# Altium schematic symbol library EL.XXX.T01.SCHLIB: 178 symbols (part 2 of 3)
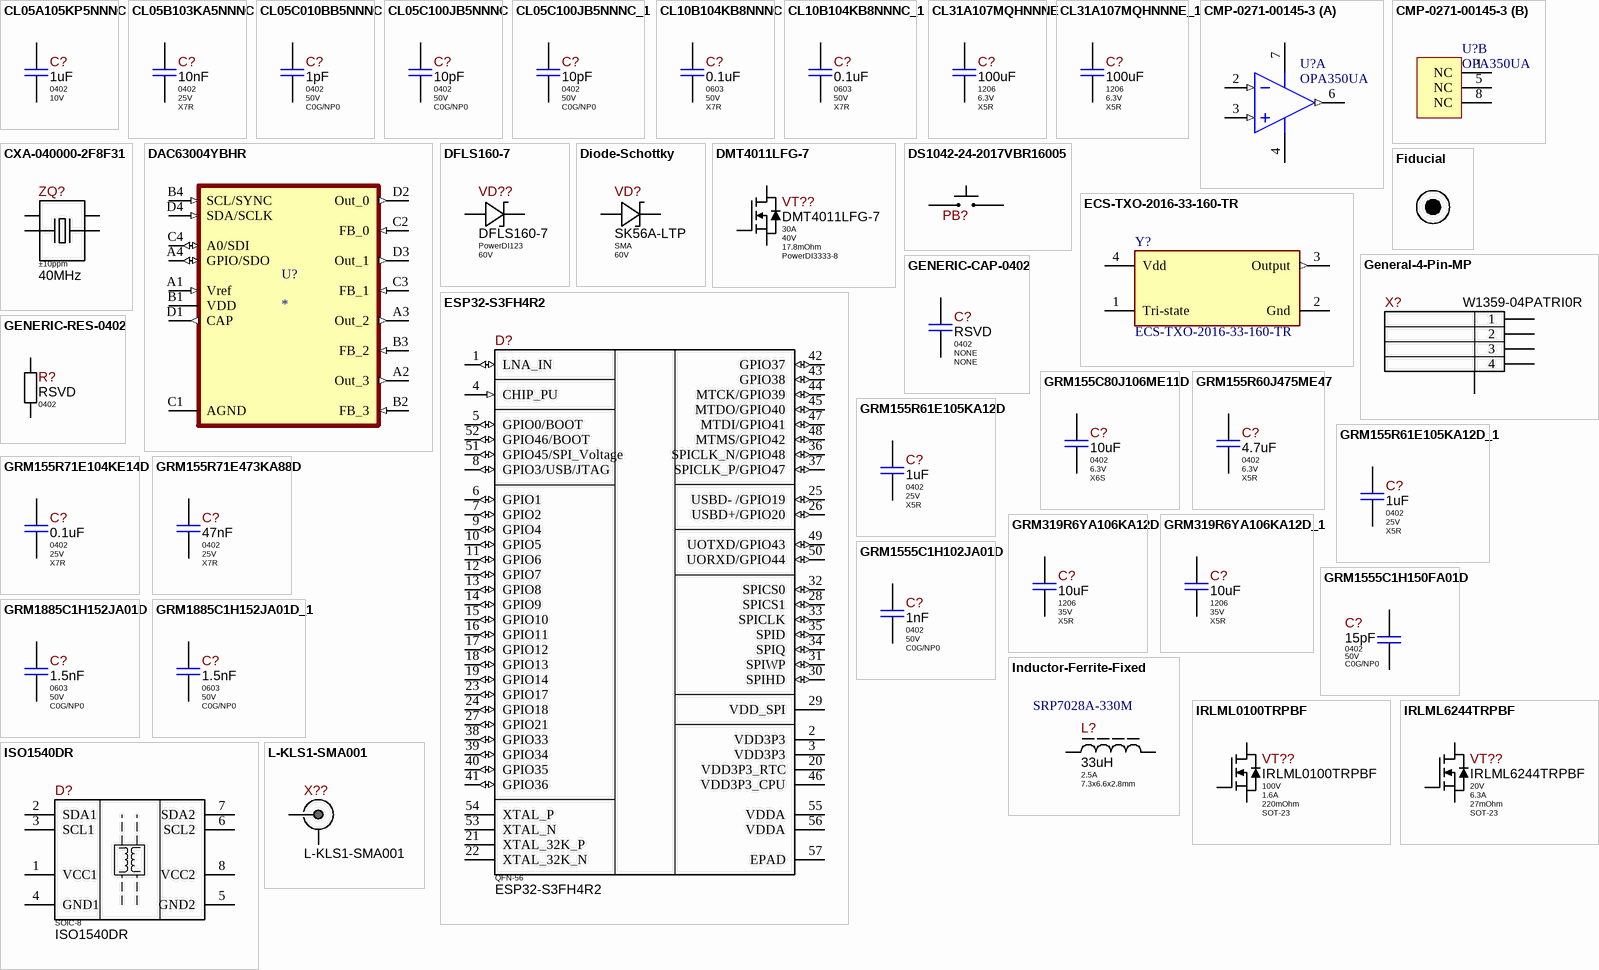
[diagram p5: symbols CL05A105KP5NNNC to L-KLS1-SMA001]

## GRM319R6YA106KA12D
designator C?, comment Package: 1206  Voltage: 35V  Dielectric Type: X5R  (hidden comment: 10uF)
10uF 35V X5R ±10% 1206 Ceramic Capacitor RoHS; Part Number: GRM319R6YA106KA12D; Manufacturer: Murata Electronics; Standard Lead Time: NONE; Component Status: Released; Part Type: Ceramic / X5R / 1206; Component Type: SMD; Temperature Range: -55°C ~ 85°C; Tolerance: ±10%; ComponentLink1URL: https://search.murata.co.jp/Ceramy/image/img/A01X/G101/ENG/GRM319R6YA106KA12-01.pdf; Supplier 1: Digi-Key; Supplier Part Number 1: 490-9964-1-ND; Replacement: NONE; ComponentLink1Description: Datasheet; Price: 0.03648; Value: 10uF
footprint CAP-1206(3216)X85T15
pins: 1, 2

## GRM319R6YA106KA12D_1
designator C?, comment Package: 1206  Voltage: 35V  Dielectric Type: X5R  (hidden comment: 10uF)
10uF 35V X5R ±10% 1206 Ceramic Capacitor RoHS; Part Number: GRM319R6YA106KA12D; Manufacturer: Murata Electronics; Standard Lead Time: NONE; Component Status: Released; Part Type: Ceramic / X5R / 1206; Component Type: SMD; Temperature Range: -55°C ~ 85°C; Tolerance: ±10%; ComponentLink1URL: https://search.murata.co.jp/Ceramy/image/img/A01X/G101/ENG/GRM319R6YA106KA12-01.pdf; Supplier 1: Digi-Key; Supplier Part Number 1: 490-9964-1-ND; Replacement: NONE; ComponentLink1Description: Datasheet; Price: 0.03648; Value: 10uF
footprint CAP-1206(3216)X85T15
pins: 1, 2

## GRM1555C1H102JA01D
designator C?, comment Package: 0402  Voltage: 50V  Dielectric Type: C0G/NP0  (hidden comment: 1nF)
1nF 50V C0G ±5% 0402 Ceramic Capacitor RoHS; Part Number: GRM1555C1H102JA01D; Manufacturer: Murata Electronics; Standard Lead Time: 15 Weeks; Component Status: Released; Replacement: NONE; Part Type: Ceramic / C0G(NP0) / 0402; Component Type: SMD; Temperature Range: -55°C ~ 125°C; Tolerance: ±5%; ComponentLink1URL: https://search.murata.co.jp/Ceramy/image/img/A01X/G101/ENG/GRM1555C1H102JA01-01.pdf; Supplier 1: Digi-Key; Supplier Part Number 1: 490-3244-2-ND; Price: 0.00211; ComponentLink1Description: Datasheet; Value: 1nF
footprint C_CERAMIC_0402_MED
footprint C_CERAMIC_0402_HI
pins: 1, 2

## GRM1555C1H150FA01D
designator C?, comment Package: 0402  Voltage: 50V  Dielectric Type: C0G/NP0  (hidden comment: 15pF)
15pF 50V C0G ±1% 0402 Ceramic Capacitor RoHS; Part Number: GRM1555C1H150FA01D; Manufacturer: Murata Electronics; Standard Lead Time: 15 Weeks; Replacement: NONE; Component Status: Released; Part Type: Ceramic / C0G(NP0) / 0402; Component Type: SMD; Temperature Range: -55°C ~ 125°C; Tolerance: ±1%; ComponentLink1URL: https://search.murata.co.jp/Ceramy/image/img/A01X/G101/ENG/GRM1555C1H150FA01-01.pdf; Supplier 1: Digi-Key; Supplier Part Number 1: 490-6200-2-ND; ComponentLink1Description: Datasheet; Price: 0.00485; Value: 15pF
footprint C_CERAMIC_0402_MED
footprint C_CERAMIC_0402_HI
pins: 1, 2

## GRM1885C1H152JA01D
designator C?, comment Package: 0603  Voltage: 50V  Dielectric Type: C0G/NP0  (hidden comment: 1.5nF)
1.5nF 50V C0G(NP0) ±5% 0603 Ceramic Capacitor RoHS; Part Number: GRM1885C1H152JA01D; Manufacturer: Murata Electronics; Standard Lead Time: 22 Weeks; Component Status: Released; Replacement: NONE; Part Type: Ceramic / C0G(NP0) / 0603; Component Type: SMD; Temperature Range: -55°C ~ 125°C; Tolerance: ±5%; ComponentLink1URL: https://eu.mouser.com/datasheet/2/281/1/GRM1885C1H152JA01_01A-1984714.pdf; Supplier 1: Mouser; Supplier Part Number 1: 81-GRM1885C1H152JA01; Price: 0.00446; ComponentLink1Description: Datasheet; Value: 1.5nF
footprint C_CERAMIC_0603_MED
footprint C_CERAMIC_0603_HI
pins: 1, 2

## GRM1885C1H152JA01D_1
designator C?, comment Package: 0603  Voltage: 50V  Dielectric Type: C0G/NP0  (hidden comment: 1.5nF)
1.5nF 50V C0G(NP0) ±5% 0603 Ceramic Capacitor RoHS; Part Number: GRM1885C1H152JA01D; Manufacturer: Murata Electronics; Standard Lead Time: 22 Weeks; Component Status: Released; Replacement: NONE; Part Type: Ceramic / C0G(NP0) / 0603; Component Type: SMD; Temperature Range: -55°C ~ 125°C; Tolerance: ±5%; ComponentLink1URL: https://eu.mouser.com/datasheet/2/281/1/GRM1885C1H152JA01_01A-1984714.pdf; Supplier 1: Mouser; Supplier Part Number 1: 81-GRM1885C1H152JA01; Price: 0.00446; ComponentLink1Description: Datasheet; Value: 1.5nF
footprint C_CERAMIC_0603_MED
footprint C_CERAMIC_0603_HI
pins: 1, 2

## Inductor-Ferrite-Fixed
designator L?, comment Current: 2.5A  Package: 7.3x6.6x2.8mm  Part Number: SRP7028A-330M  (hidden comment: 33uH)
33uH Shielded Wirewound Power Inductor 2.5A 240mOhm Max; Manufacturer: Bourns Inc; Tolerance: ±20%; Component Status: Released; Standard Lead Time: 24 Weeks; Replacement: NONE; Part Type: Power / Ferrite Core; Saturation Current: 2.5A; Component Type: SMD; Temperature Range: -40°C ~ 150°C; ComponentLink1URL: https://eu.mouser.com/datasheet/2/54/srp7028a-1391359.pdf; Supplier 1: Mouser; Supplier Part Number 1: 652-SRP7028A-330M; Price: 0.807; ComponentLink1Description: Datasheet; Value: 33uH
footprint SRP7028A-Series
pins: 1, 2

## IRLML0100TRPBF
designator VT??, comment Part Number: IRLML0100TRPBF  Vds: 100V  Id: 1.6A  Rds: 220mOhm  Package: SOT-23  (hidden comment: IRLML0100TR)
100V, 1.6A max N-Channel HEXFET Power MOSFET, 190mOhm @ Vgs = 4.5V; Manufacturer: Infineon Technologies; Component Status: Released; Standard Lead Time: 13 Weeks; Replacement: NONE; Part Type: N-Channel; Component Type: SMD; Temperature Range: -55°C ~ 150°C; ComponentLink1URL: https://www.infineon.com/dgdl/irlml0100pbf.pdf?fileId=5546d462533600a4015356649d9225e8; Supplier 1: Digi-Key; Supplier Part Number 1: IRLML0100TRPBFTR-ND; Price: 0.071; ComponentLink1Description: Datasheet
footprint SOT-23_MED
footprint SOT-23_HI
pins: 1 G, 2 S, 3 D

## IRLML6244TRPBF
designator VT??, comment Part Number: IRLML6244TRPBF  Vds: 20V  Id: 6.3A  Rds: 27mOhm  Package: SOT-23  (hidden comment: IRLML6244)
20V, 6.3A max N-Channel HEXFET MOSFET, 21mOhm @ Vgs = 4.5V; Manufacturer: Infineon Technologies; Component Status: Released; Standard Lead Time: 15 Weeks; Replacement: NONE; Part Type: N-Channel; Component Type: SMD; Temperature Range: -55°C ~ 150°C; ComponentLink1URL: https://eu.mouser.com/datasheet/2/196/Infineon_IRLML6244_DataSheet_v01_01_EN-3363560.pdf; Supplier 1: Digi-Key; Supplier Part Number 1: IRLML6244TRPBFTR-ND; Price: 0.05; ComponentLink1Description: Datasheet
footprint SOT-23_MED
footprint SOT-23_HI
pins: 1 G, 2 S, 3 D

## ISO1540DR
designator D?  Package: SOIC-8  (hidden comment: ISO1540DR)
I2C Digital Isolator 2500Vrms 2 Channel 1Mbps 25kV/us, SOIC-8; Manufacturer: Texas Instruments; Standard Lead Time: 8 Weeks; Replacement: ADUM1250ARZ; Part Type: Isolator; Component Type: SMD; Temperature Range: -40°C ~ 125°C; ComponentLink1URL: https://www.ti.com/lit/ds/symlink/iso1540.pdf; Supplier 1: Digi-Key; Supplier Part Number 1: 296-34871-2-ND; Price: 1,4064; ComponentLink1Description: Datasheet; Part Number: ISO1540DR
footprint SOIC-8_W3.9MM
pins: 1 VCC1, 2 SDA1, 3 SCL1, 4 GND1, 5 GND2, 6 SCL2, 7 SDA2, 8 VCC2

## L-KLS1-SMA001
designator X??, comment Part Number: L-KLS1-SMA001  (hidden comment: KLS1-SMA001)
50Ohm SMA Connector, Vertical, Female, 5.08mm; Manufacturer: KLS Electronic; Component Status: Released; Replacement: NONE; Part Type: RF Connector; Component Type: PTH; Temperature Range: -55°C ~ 155°C; Price: 0.4767569
footprint L-KLS1-SMA001 (50Ohm SMA Connector, Vertical, Female, 5.08mm)
pins: 1, 2

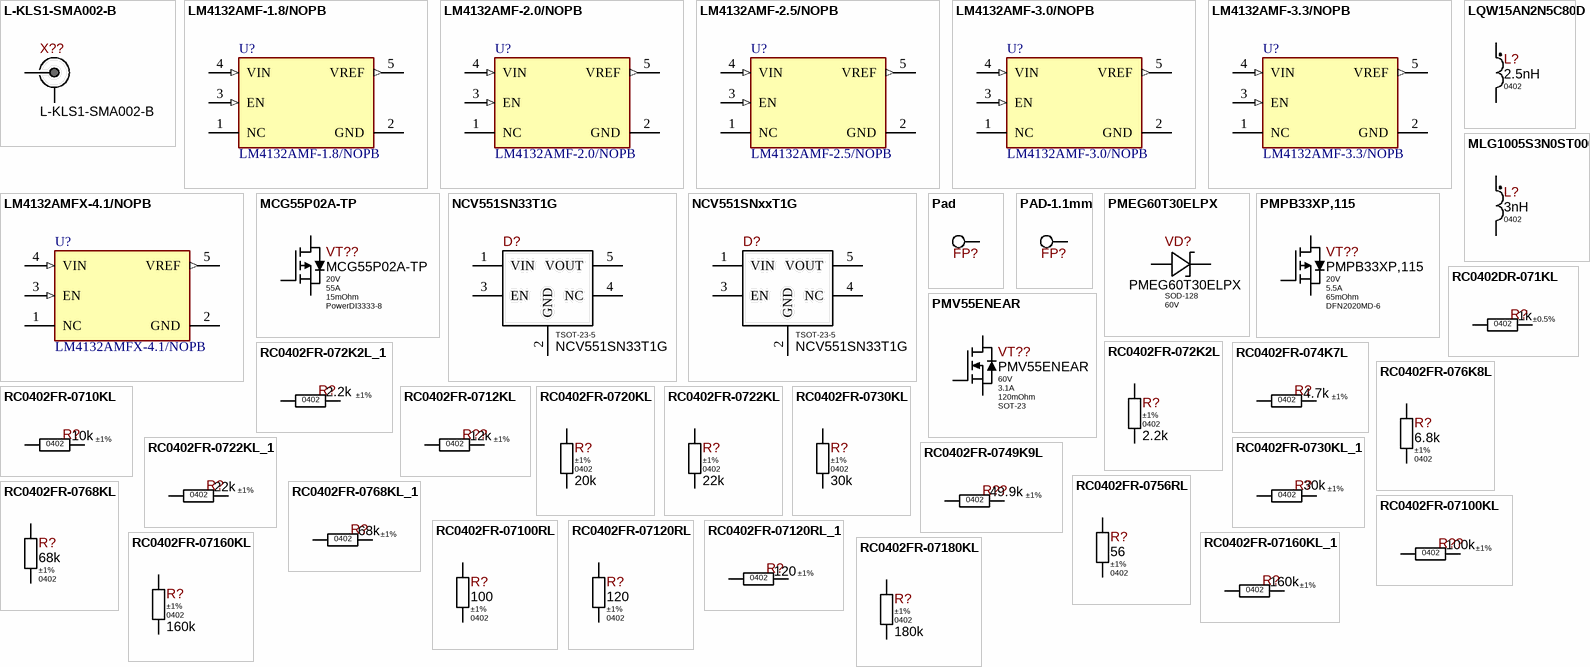
[diagram p2: symbols L-KLS1-SMA002-B to RC0402FR-07180KL]

## L-KLS1-SMA002-B
designator X??, comment Part Number: L-KLS1-SMA002-B  (hidden comment: KLS1-SMA002-B)
50Ohm SMA Connector, Right Angle, Female, 5.08mm; Manufacturer: KLS Electronic; Ajax_1С_Lifecycle: Archived; Component Status: Released; Replacement: NONE; Part Type: RF Connector; Component Type: PTH; Temperature Range: -55°C ~ 155°C; Price: 0.79923744
footprint L-KLS1-SMA002-B (50Ohm SMA Connector, Right Angle, Female, 5.08mm)
pins: 1, 2

## LM4132AMF-1.8/NOPB
designator U?
IC VREF SERIES 0.05% SOT23-5; Quiescent Current: 100uA; Output Current: 20mA; Number of Channels: 1; Temperature Coefficient: 20ppm/°C; Max Input Voltage: 6V; Output Voltage: 2.5V; Max Supply Voltage: 2.2V; Dropout Voltage: 175mV; Supply Current: 60uA; Output Type: Fixed; Length: 2.92mm; Radiation Hardening: No; Reference Type: Series; Mount: Surface Mount; Packaging: Tape and Reel; Width: 1.6mm; Max Operating Temperature: 125°C; Lead Free: Lead Free; Series: -; Number of Pins: 5; REACH SVHC: No SVHC; Max Output Voltage: 2.5V; Package Quantity: 1000; Tolerance: 0.05%; Min Input Voltage: 2.2V; Case/Package: SOT-23; Termination: SMD/SMT; Height: 1.02mm; Min Output Voltage: 2.5V; Reference Voltage: 2.5V; Max Output Current: 20mA; Nominal Supply Current: 60uA; Min Operating Temperature: -40°C; Operating Supply Current: 100uA; Part Number: LM4132AMF-1.8/NOPB; Supplier 1: Mouser; Supplier Part Number 1: 926-LM4132AMF18NOPB; ComponentLink1Description: Datasheet; ComponentLink1URL: https://www.ti.com/lit/gpn/lm4132-q1
footprint SOT-23-5
pins: 1 NC, 2 GND (power), 3 EN (in), 4 VIN (in), 5 VREF (out)

## LM4132AMF-2.0/NOPB
designator U?
IC VREF SERIES 0.05% SOT23-5; Quiescent Current: 100uA; Output Current: 20mA; Number of Channels: 1; Temperature Coefficient: 20ppm/°C; Max Input Voltage: 6V; Output Voltage: 2.5V; Max Supply Voltage: 2.2V; Dropout Voltage: 175mV; Supply Current: 60uA; Output Type: Fixed; Length: 2.92mm; Radiation Hardening: No; Reference Type: Series; Mount: Surface Mount; Packaging: Tape and Reel; Width: 1.6mm; Max Operating Temperature: 125°C; Lead Free: Lead Free; Series: -; Number of Pins: 5; REACH SVHC: No SVHC; Max Output Voltage: 2.5V; Package Quantity: 1000; Tolerance: 0.05%; Min Input Voltage: 2.2V; Case/Package: SOT-23; Termination: SMD/SMT; Height: 1.02mm; Min Output Voltage: 2.5V; Reference Voltage: 2.5V; Max Output Current: 20mA; Nominal Supply Current: 60uA; Min Operating Temperature: -40°C; Operating Supply Current: 100uA; Part Number: LM4132AMF-2.0/NOPB; Supplier 1: Mouser; Supplier Part Number 1: 926-LM4132AMF20NOPB; ComponentLink1Description: Datasheet; ComponentLink1URL: https://www.ti.com/lit/gpn/lm4132-q1
footprint SOT-23-5
pins: 1 NC, 2 GND (power), 3 EN (in), 4 VIN (in), 5 VREF (out)

## LM4132AMF-2.5/NOPB
designator U?
IC VREF SERIES 0.05% SOT23-5; Quiescent Current: 100uA; Output Current: 20mA; Number of Channels: 1; Temperature Coefficient: 20ppm/°C; Max Input Voltage: 6V; Output Voltage: 2.5V; Max Supply Voltage: 2.2V; Dropout Voltage: 175mV; Supply Current: 60uA; Output Type: Fixed; Length: 2.92mm; Radiation Hardening: No; Reference Type: Series; Mount: Surface Mount; Packaging: Tape and Reel; Width: 1.6mm; Max Operating Temperature: 125°C; Lead Free: Lead Free; Series: -; Number of Pins: 5; REACH SVHC: No SVHC; Max Output Voltage: 2.5V; Package Quantity: 1000; Tolerance: 0.05%; Min Input Voltage: 2.2V; Case/Package: SOT-23; Termination: SMD/SMT; Height: 1.02mm; Min Output Voltage: 2.5V; Reference Voltage: 2.5V; Max Output Current: 20mA; Nominal Supply Current: 60uA; Min Operating Temperature: -40°C; Operating Supply Current: 100uA; Part Number: LM4132AMF-2.5/NOPB; Supplier 1: Mouser; Supplier Part Number 1: 926-LM4132AMF2.5NOPB; ComponentLink1Description: Datasheet; ComponentLink1URL: https://www.ti.com/lit/gpn/lm4132-q1
footprint SOT-23-5
pins: 1 NC, 2 GND (power), 3 EN (in), 4 VIN (in), 5 VREF (out)

## LM4132AMF-3.0/NOPB
designator U?
IC VREF SERIES 0.05% SOT23-5; Quiescent Current: 100uA; Output Current: 20mA; Number of Channels: 1; Temperature Coefficient: 20ppm/°C; Max Input Voltage: 6V; Output Voltage: 2.5V; Max Supply Voltage: 2.2V; Dropout Voltage: 175mV; Supply Current: 60uA; Output Type: Fixed; Length: 2.92mm; Radiation Hardening: No; Reference Type: Series; Mount: Surface Mount; Packaging: Tape and Reel; Width: 1.6mm; Max Operating Temperature: 125°C; Lead Free: Lead Free; Series: -; Number of Pins: 5; REACH SVHC: No SVHC; Max Output Voltage: 2.5V; Package Quantity: 1000; Tolerance: 0.05%; Min Input Voltage: 2.2V; Case/Package: SOT-23; Termination: SMD/SMT; Height: 1.02mm; Min Output Voltage: 2.5V; Reference Voltage: 2.5V; Max Output Current: 20mA; Nominal Supply Current: 60uA; Min Operating Temperature: -40°C; Operating Supply Current: 100uA; Part Number: LM4132AMF-3.0/NOPB; Supplier 1: Mouser; Supplier Part Number 1: 926-LM4132AMF30NOPB; ComponentLink1Description: Datasheet; ComponentLink1URL: https://www.ti.com/lit/gpn/lm4132-q1
footprint SOT-23-5
pins: 1 NC, 2 GND (power), 3 EN (in), 4 VIN (in), 5 VREF (out)

## LM4132AMF-3.3/NOPB
designator U?
IC VREF SERIES 0.05% SOT23-5; Quiescent Current: 100uA; Output Current: 20mA; Number of Channels: 1; Temperature Coefficient: 20ppm/°C; Max Input Voltage: 6V; Output Voltage: 2.5V; Max Supply Voltage: 2.2V; Dropout Voltage: 175mV; Supply Current: 60uA; Output Type: Fixed; Length: 2.92mm; Radiation Hardening: No; Reference Type: Series; Mount: Surface Mount; Packaging: Tape and Reel; Width: 1.6mm; Max Operating Temperature: 125°C; Lead Free: Lead Free; Series: -; Number of Pins: 5; REACH SVHC: No SVHC; Max Output Voltage: 2.5V; Package Quantity: 1000; Tolerance: 0.05%; Min Input Voltage: 2.2V; Case/Package: SOT-23; Termination: SMD/SMT; Height: 1.02mm; Min Output Voltage: 2.5V; Reference Voltage: 2.5V; Max Output Current: 20mA; Nominal Supply Current: 60uA; Min Operating Temperature: -40°C; Operating Supply Current: 100uA; Part Number: LM4132AMF-3.3/NOPB; Supplier 1: Mouser; Supplier Part Number 1: 926-LM4132AMF3.3NOPB; ComponentLink1Description: Datasheet; ComponentLink1URL: https://www.ti.com/lit/gpn/lm4132-q1
footprint SOT-23-5
pins: 1 NC, 2 GND (power), 3 EN (in), 4 VIN (in), 5 VREF (out)

## LM4132AMFX-4.1/NOPB
designator U?
IC VREF SERIES 0.05% SOT23-5; Quiescent Current: 100uA; Output Current: 20mA; Number of Channels: 1; Temperature Coefficient: 20ppm/°C; Max Input Voltage: 6V; Output Voltage: 2.5V; Max Supply Voltage: 2.2V; Dropout Voltage: 175mV; Supply Current: 60uA; Output Type: Fixed; Length: 2.92mm; Radiation Hardening: No; Reference Type: Series; Mount: Surface Mount; Packaging: Tape and Reel; Width: 1.6mm; Max Operating Temperature: 125°C; Lead Free: Lead Free; Series: -; Number of Pins: 5; REACH SVHC: No SVHC; Max Output Voltage: 2.5V; Package Quantity: 1000; Tolerance: 0.05%; Min Input Voltage: 2.2V; Case/Package: SOT-23; Termination: SMD/SMT; Height: 1.02mm; Min Output Voltage: 2.5V; Reference Voltage: 2.5V; Max Output Current: 20mA; Nominal Supply Current: 60uA; Min Operating Temperature: -40°C; Operating Supply Current: 100uA; Part Number: LM4132AMFX-4.1/NOPB; Supplier 1: Mouser; Supplier Part Number 1: 926-LM4132AMFX4.1NOPB; ComponentLink1Description: LM4132AMFX-4.1/NOPB; ComponentLink1URL: https://www.ti.com/lit/gpn/lm4132-q1
footprint SOT-23-5
pins: 1 NC, 2 GND (power), 3 EN (in), 4 VIN (in), 5 VREF (out)

## LQW15AN2N5C80D
designator L?, comment Package: 0402  (hidden comment: 2.5nH)
2.5nH Unshielded Wirewound RF Inductor 2.1A 30mOhm Max, 0402; Part Number: LQW15AN2N5C80D; Manufacturer: Murata Electronics; Saturation Current: NONE; Tolerance: ±0.2nH; Standard Lead Time: 6 Weeks; Component Status: Released; Part Type: RF / Wirewound; Current: 2.1A; Component Type: SMD; Temperature Range: -55°C ~ 125°C; ComponentLink1URL: https://eu.mouser.com/datasheet/2/281/1/JELF243A_0100-1380931.pdf; Supplier 1: Mouser; Supplier Part Number 1: 81-LQW15AN2N5C80D; Replacement: NONE; Price: 0,1318; ComponentLink1Description: Datasheet; Value: 2.5nH
footprint LQW15ANxxxx00x_REC
footprint LQW15ANxxxx00x_MED
footprint RLC_0402_MED_UNI
pins: 1, 2

## MCG55P02A-TP
designator VT??  Vds: 20V  Id: 55A  Rds: 15mOhm  Package: PowerDI3333-8  (hidden comment: MCG55P02A-TP)
-20V, -55A max Trench Power LV P-Channel Enhancement MOSFET, 6.5mOhm @ Vgs = -4.5V; Manufacturer: Micro Commercial Components; Component Status: Released; Standard Lead Time: 26 Weeks; Replacement: NONE; Part Number: MCG55P02A-TP; Part Type: P-Channel; Component Type: SMD; Temperature Range: -55°C ~ 150°C; Supplier 1: Mouser; Supplier Part Number 1: 833-MCG55P02A-TP; Price: 0.14
footprint PowerDI3333-8
pins: D Drain, G Gate, S Source

## MLG1005S3N0ST000
designator L?, comment Package: 0402  (hidden comment: 3nH)
3nH Unshielded Multilayer Inductor 800mA 200mOhm Max, 0402; Part Number: MLG1005S3N0ST000; Manufacturer: TDK; Current: 0.8A; Saturation Current: NONE; Tolerance: ±0.3nH; Standard Lead Time: 12 Weeks; Component Status: Released; Part Type: RF / Multilayer; Component Type: SMD; Temperature Range: -55°C ~ 125°C; ComponentLink1URL: https://product.tdk.com/info/en/catalog/datasheets/inductor_commercial_high-frequency_mlg1005s_en.pdf; Supplier 1: Digi-Key; Supplier Part Number 1: 445-3046-2-ND; Replacement: NONE; Price: 0,01134067; ComponentLink1Description: Datasheet; Value: 3nH
footprint MLG1005S_MED
footprint MLG1005S-Series
pins: 1, 2

## NCV551SN33T1G
designator D?  Package: TSOT-23-5  (hidden comment: NCV551SN33T1G)
Fixed 3.3V, 150mA Output, 12V max Input, 4uA Iq, LDO, TSOT-23-5; Manufacturer: Onsemi; Standard Lead Time: 53 Weeks; Component Status: Released; Replacement: NONE; Part Type: Power / Linear Regulator; Component Type: SMD; Temperature Range: -40°C ~ 125°C; ComponentLink1URL: https://eu.mouser.com/datasheet/2/308/NCP551_D-1812664.pdf; Supplier 1: Mouser; Supplier Part Number 1: 863-NCV551SN33T1G; Price: 0.23211881; ComponentLink1Description: Datasheet; Part Number: NCV551SN33T1G
footprint TSOT-23-5
pins: 1 VIN, 2 GND, 3 EN, 4 NC, 5 VOUT

## NCV551SNxxT1G
designator D?, comment Package: TSOT-23-5  (hidden comment: NCV551SN33T1G)
Fixed 3.3V, 150mA Output, 12V max Input, 4uA Iq, LDO, TSOT-23-5; Manufacturer: Onsemi; Standard Lead Time: 53 Weeks; Component Status: Released; Replacement: NONE; Part Type: Power / Linear Regulator; Component Type: SMD; Temperature Range: -40°C ~ 125°C; ComponentLink1URL: https://eu.mouser.com/datasheet/2/308/NCP551_D-1812664.pdf; Supplier 1: Mouser; Supplier Part Number 1: 863-NCV551SN33T1G; Price: 0.23211881; ComponentLink1Description: Datasheet; Part Number: NCV551SN33T1G
footprint TSOT-23-5
pins: 1 VIN, 2 GND, 3 EN, 4 NC, 5 VOUT

## Pad
designator FP?, comment PAD-1.1mm  (value not drawn)  (no BOM)
1.1mm Pad for Plug-In or Receptacle; Manufacturer: NONE; Component Status: Released; Part Number: PAD-1.1mm; Component Type: PTH; Part Type: Pad; Temperature Range: NONE; ComponentLink1URL: NONE; Replacement: NONE; ComponentLink1Description: Datasheet; Price: NONE
footprint PAD-1.1mm
pins: 1

## PAD-1.1mm
designator FP?  (value not drawn)  (no BOM)
1.1mm Pad for Plug-In or Receptacle; Manufacturer: NONE; Component Status: Released; Part Number: PAD-1.1mm; Component Type: PTH; Part Type: Pad; Temperature Range: NONE; Replacement: NONE; Price: NONE
footprint PAD-1.1mm
pins: 1

## PMEG60T30ELPX
designator VD?  Package: SOD-128  Voltage: 60V  (hidden comment: PMEG60T30ELPX)
Diode Schottky 60V 3A, 550mV @ 3A, 16ns Recovery Time, SOD-128; Manufacturer: Nexperia USA; Marking: E2; Component Status: Released; Standard Lead Time: 20 Weeks; Replacement: NONE; Part Type: Schottky; Component Type: SMD; Current: 3A; Vf: 550mV @ 3A; Temperature Range: -55°C ~ 175°C; ComponentLink1URL: https://assets.nexperia.com/documents/data-sheet/PMEG60T30ELP.pdf; Supplier 1: Digi-Key; Supplier Part Number 1: 1727-7809-2-ND; Price: NONE; ComponentLink1Description: Datasheet; Part Number: PMEG60T30ELPX
footprint SOD-128
pins: AN, CA

## PMPB33XP,115
designator VT??  Vds: 20V  Id: 5.5A  Rds: 65mOhm  Package: DFN2020MD-6  (hidden comment: PMPB33XP,115)
-20V, -5.5A max P-Channel Trench MOSFET, 37mOhm @ Vgs = -4.5V; Manufacturer: Nexperia USA; Component Status: Released; Standard Lead Time: 20 Weeks; Replacement: NONE; Part Number: PMPB33XP,115; Part Type: P-Channel; Component Type: SMD; Temperature Range: -55°C ~ 150°C; ComponentLink1URL: https://assets.nexperia.com/documents/data-sheet/PMPB33XP.pdf; Supplier 1: Digi-Key; Supplier Part Number 1: 1727-1240-2-ND; Price: 0.1035; ComponentLink1Description: Datasheet
footprint U-DFN2020-6_SLDR
footprint U-DFN2020-6
pins: D Drain, G Gate, S Source

## PMV55ENEAR
designator VT??  Vds: 60V  Id: 3.1A  Rds: 120mOhm  Package: SOT-23  (hidden comment: PMV55ENEAR)
60V, 3.1A max N-Channel Trench MOSFET, 52mOhm @ Vgs = 4.5V; Manufacturer: Nexperia USA; Component Status: Released; Standard Lead Time: 4 Weeks; Replacement: NONE; Part Number: PMV55ENEAR; Part Type: N-Channel; Component Type: SMD; Temperature Range: -55°C ~ 150°C; ComponentLink1URL: https://assets.nexperia.com/documents/data-sheet/PMV55ENEA.pdf; Supplier 1: Digi-Key; Supplier Part Number 1: 1727-2534-2-ND; Price: 0.085; ComponentLink1Description: Datasheet
footprint SOT-23_MED
footprint SOT-23_HI
pins: 1 G, 2 S, 3 D

## RC0402DR-071KL
designator R?, comment Tolerance: ±0.5%  Package: 0402  (hidden comment: 1k)
1 kOhms ±0.5% 1/16W 0402 Thick Film Resistor; Part Number: RC0402DR-071KL; Manufacturer: Yageo; Power Rating: 0.062W; Voltage: 50V; Component Status: Released; Temperature Stability: ±100ppm/°C; Replacement: NONE; Component Type: SMD; Part Type: Thick Film; Temperature Range: -55°C ~ 155°C; ComponentLink1URL: https://www.yageo.com/upload/media/product/productsearch/datasheet/rchip/PYu-RC_Group_51_RoHS_L_12.pdf; Supplier 1: Digi-Key; Supplier Part Number 1: 13-RC0402DR-071KLTR-ND; Price: 0.015; ComponentLink1Description: Datasheet; Value: 1k
footprint R_ANY_CHIP_0402_MED
footprint R_ANY_CHIP_0402_HI
pins: 1, 2

## RC0402FR-072K2L
designator R?, comment Tolerance: ±1%  Package: 0402  (hidden comment: 2.2k)
2.2 kOhms ±1% 1/16W 0402 Thick Film Resistor; Part Number: RC0402FR-072K2L; Manufacturer: Yageo; Power Rating: 0.062W; Voltage: 50V; Temperature Stability: ±100ppm/°C; Replacement: NONE; Component Status: Released; Component Type: SMD; Temperature Range: -55°C ~ 155°C; ComponentLink1URL: https://eu.mouser.com/datasheet/2/447/PYu_RC_Group_51_RoHS_L_11-1984063.pdf; ComponentLink1Description: Datasheet; Part Type: Thick Film; Price: 0,00065; Value: 2.2k
footprint R_ANY_CHIP_0402_MED
footprint R_ANY_CHIP_0402_HI
pins: 1, 2

## RC0402FR-072K2L_1
designator R?, comment Tolerance: ±1%  Package: 0402  (hidden comment: 2.2k)
2.2 kOhms ±1% 1/16W 0402 Thick Film Resistor; Part Number: RC0402FR-072K2L; Manufacturer: Yageo; Power Rating: 0.062W; Voltage: 50V; Temperature Stability: ±100ppm/°C; Replacement: NONE; Component Status: Released; Component Type: SMD; Temperature Range: -55°C ~ 155°C; ComponentLink1URL: https://eu.mouser.com/datasheet/2/447/PYu_RC_Group_51_RoHS_L_11-1984063.pdf; ComponentLink1Description: Datasheet; Part Type: Thick Film; Price: 0,00065; Value: 2.2k
footprint R_ANY_CHIP_0402_MED
footprint R_ANY_CHIP_0402_HI
pins: 1, 2

## RC0402FR-074K7L
designator R?, comment Tolerance: ±1%  Package: 0402  (hidden comment: 4.7k)
4.7 kOhms ±1% 1/16W 0402 Thick Film Resistor; Part Number: RC0402FR-074K7L; Manufacturer: Yageo; Power Rating: 0.062W; Voltage: 50V; Component Status: Released; Temperature Stability: ±100ppm/°C; Replacement: NONE; Component Type: SMD; Part Type: Thick Film; Temperature Range: -55°C ~ 155°C; ComponentLink1URL: https://eu.mouser.com/datasheet/2/447/PYu_RC_Group_51_RoHS_L_10-1664068.pdf; Price: 0.00065; ComponentLink1Description: Datasheet; Value: 4.7k
footprint R_ANY_CHIP_0402_MED
footprint R_ANY_CHIP_0402_HI
pins: 1, 2

## RC0402FR-076K8L
designator R?, comment Tolerance: ±1%  Package: 0402  (hidden comment: 6.8k)
6.8k kOhms ±1%, 1/16W 0402 Thick Film Resistor; Part Number: RC0402FR-076K8L; Manufacturer: Yageo; Power Rating: 0.062W; Voltage: 50V; Temperature Stability: ±100ppm/°C; Replacement: NONE; Component Status: Released; Component Type: SMD; Part Type: Thick Film; Temperature Range: -55°C ~ 155°C; ComponentLink1URL: https://eu.mouser.com/datasheet/2/447/PYu_RC_Group_51_RoHS_L_11-1984063.pdf; ComponentLink1Description: Datasheet; Supplier 1: Digi-Key; Supplier Part Number 1: 311-6.80KLRTR-ND; Price: 0.00078254; Value: 6.8k
footprint R_ANY_CHIP_0402_MED
footprint R_ANY_CHIP_0402_HI
pins: 1, 2

## RC0402FR-0710KL
designator R?, comment Tolerance: ±1%  Package: 0402  (hidden comment: 10k)
10 kOhms ±1% 1/16W 0402 Thick Film Resistor; Part Number: RC0402FR-0710KL; Manufacturer: Yageo; Power Rating: 0.062W; Voltage: 50V; Temperature Stability: ±100ppm/°C; Replacement: NONE; Component Status: Released; Component Type: SMD; Temperature Range: -55°C ~ 155°C; ComponentLink1URL: https://eu.mouser.com/datasheet/2/447/PYu_RC_Group_51_RoHS_L_10-1664068.pdf; Supplier 1: Digi-Key; Supplier Part Number 1: 311-10.0KLRTR-ND; ComponentLink1Description: Datasheet; Part Type: Thick Film; Price: 0,00065; Value: 10k
footprint R_ANY_CHIP_0402_MED
footprint R_ANY_CHIP_0402_HI
pins: 1, 2

## RC0402FR-0712KL
designator R??, comment Tolerance: ±1%  Package: 0402  (hidden comment: 12k)
12 kOhms ±1% 1/16W 0402 Thick Film Resistor; Part Number: RC0402FR-0712KL; Manufacturer: Yageo; Power Rating: 0.062W; Voltage: 50V; Component Status: Released; Temperature Stability: ±100ppm/°C; Replacement: NONE; Component Type: SMD; Part Type: Thick Film; Temperature Range: -55°C ~ 155°C; ComponentLink1URL: https://eu.mouser.com/datasheet/2/447/PYu_RC_Group_51_RoHS_L_11-1984063.pdf; Supplier 1: Digi-Key; Supplier Part Number 1: 311-12.0KLRTR-ND; Price: 0.00065003; ComponentLink1Description: Datasheet; Value: 12k
footprint R_ANY_CHIP_0402_MED
footprint R_ANY_CHIP_0402_HI
pins: 1, 2

## RC0402FR-0720KL
designator R?, comment Tolerance: ±1%  Package: 0402  (hidden comment: 20k)
20 kOhms ±1% 1/16W 0402 Thick Film Resistor; Part Number: RC0402FR-0720KL; Manufacturer: Yageo; Power Rating: 0.062W; Voltage: 50V; Temperature Stability: ±100ppm/°C; Replacement: NONE; Component Status: Released; Component Type: SMD; Part Type: Thick Film; Temperature Range: -55°C ~ 155°C; ComponentLink1URL: https://eu.mouser.com/datasheet/2/447/PYu_RC_Group_51_RoHS_L_10-1664068.pdf; ComponentLink1Description: Datasheet; Price: 0.00065; Value: 20k
footprint R_ANY_CHIP_0402_MED
footprint R_ANY_CHIP_0402_HI
pins: 1, 2

## RC0402FR-0722KL
designator R?, comment Tolerance: ±1%  Package: 0402  (hidden comment: 22k)
22 kOhms ±1% 1/16W 0402 Thick Film Resistor; Part Number: RC0402FR-0722KL; Manufacturer: Yageo; Power Rating: 0.062W; Voltage: 50V; Temperature Stability: ±100ppm/°C; Replacement: NONE; Component Status: Released; Component Type: SMD; Temperature Range: -55°C ~ 155°C; ComponentLink1URL: https://eu.mouser.com/datasheet/2/447/PYu_RC_Group_51_RoHS_L_10-1664068.pdf; ComponentLink1Description: Datasheet; Part Type: Thick Film; Price: 0,00065038; Value: 22k
footprint R_ANY_CHIP_0402_MED
footprint R_ANY_CHIP_0402_HI
pins: 1, 2

## RC0402FR-0722KL_1
designator R?, comment Tolerance: ±1%  Package: 0402  (hidden comment: 22k)
22 kOhms ±1% 1/16W 0402 Thick Film Resistor; Part Number: RC0402FR-0722KL; Manufacturer: Yageo; Power Rating: 0.062W; Voltage: 50V; Temperature Stability: ±100ppm/°C; Replacement: NONE; Component Status: Released; Component Type: SMD; Temperature Range: -55°C ~ 155°C; ComponentLink1URL: https://eu.mouser.com/datasheet/2/447/PYu_RC_Group_51_RoHS_L_10-1664068.pdf; ComponentLink1Description: Datasheet; Part Type: Thick Film; Price: 0,00065038; Value: 22k
footprint R_ANY_CHIP_0402_MED
footprint R_ANY_CHIP_0402_HI
pins: 1, 2

## RC0402FR-0730KL
designator R?, comment Tolerance: ±1%  Package: 0402  (hidden comment: 30k)
30 kOhms ±1% 1/16W 0402 Thick Film Resistor; Part Number: RC0402FR-0730KL; Manufacturer: Yageo; Power Rating: 0.062W; Voltage: 50V; Temperature Stability: ±100ppm/°C; Replacement: NONE; Component Status: Released; Component Type: SMD; Temperature Range: -55°C ~ 155°C; ComponentLink1URL: https://eu.mouser.com/datasheet/2/447/PYu_RC_Group_51_RoHS_L_11-1984063.pdf; Supplier 1: Digi-Key; Supplier Part Number 1: 311-30.0KLRTR-ND; ComponentLink1Description: Datasheet; Part Type: Thick Film; Price: 0,00065; Value: 30k
footprint R_ANY_CHIP_0402_MED
footprint R_ANY_CHIP_0402_HI
pins: 1, 2

## RC0402FR-0730KL_1
designator R?, comment Tolerance: ±1%  Package: 0402  (hidden comment: 30k)
30 kOhms ±1% 1/16W 0402 Thick Film Resistor; Part Number: RC0402FR-0730KL; Manufacturer: Yageo; Power Rating: 0.062W; Voltage: 50V; Temperature Stability: ±100ppm/°C; Replacement: NONE; Component Status: Released; Component Type: SMD; Temperature Range: -55°C ~ 155°C; ComponentLink1URL: https://eu.mouser.com/datasheet/2/447/PYu_RC_Group_51_RoHS_L_11-1984063.pdf; Supplier 1: Digi-Key; Supplier Part Number 1: 311-30.0KLRTR-ND; ComponentLink1Description: Datasheet; Part Type: Thick Film; Price: 0,00065; Value: 30k
footprint R_ANY_CHIP_0402_MED
footprint R_ANY_CHIP_0402_HI
pins: 1, 2

## RC0402FR-0749K9L
designator R??, comment Tolerance: ±1%  Package: 0402  (hidden comment: 49.9k)
49.9 kOhms ±1% 1/16W 0402 Thick Film Resistor; Part Number: RC0402FR-0749K9L; Manufacturer: Yageo; Power Rating: 0.062W; Voltage: 50V; Component Status: Released; Temperature Stability: ±100ppm/°C; Replacement: NONE; Component Type: SMD; Part Type: Thick Film; Temperature Range: -55°C ~ 155°C; ComponentLink1URL: https://eu.mouser.com/datasheet/2/447/PYu_RC_Group_51_RoHS_L_10-1664068.pdf; Supplier 1: Mouser; Supplier Part Number 1: 603-RC0402FR-0749K9L; Price: 0.00065; ComponentLink1Description: Datasheet; Value: 49.9k
footprint R_ANY_CHIP_0402_MED
footprint R_ANY_CHIP_0402_HI
pins: 1, 2

## RC0402FR-0756RL
designator R?, comment Tolerance: ±1%  Package: 0402  (hidden comment: 56)
56 Ohms ±1% 1/16W 0402 Thick Film Resistor; Part Number: RC0402FR-0756RL; Manufacturer: Yageo; Power Rating: 0.062W; Voltage: 50V; Component Status: Review; Temperature Stability: ±100ppm/°C; Replacement: NONE; Component Type: SMD; Part Type: Thick Film; Temperature Range: -55°C ~ 155°C; ComponentLink1URL: https://eu.mouser.com/datasheet/2/447/PYu_RC_Group_51_RoHS_L_11-1984063.pdf; Supplier 1: Digi-Key; Supplier Part Number 1: 311-56.0LRTR-ND; Price: NONE; ComponentLink1Description: Datasheet; Value: 56
footprint R_ANY_CHIP_0402_MED
footprint R_ANY_CHIP_0402_HI
pins: 1, 2

## RC0402FR-0768KL
designator R?, comment Tolerance: ±1%  Package: 0402  (hidden comment: 68k)
68 kOhms ±1% 1/16W 0402 Thick Film Resistor; Part Number: RC0402FR-0768KL; Manufacturer: Yageo; Power Rating: 0.062W; Voltage: 50V; Temperature Stability: ±100ppm/°C; Replacement: NONE; Component Status: Released; Component Type: SMD; Temperature Range: -55°C ~ 155°C; ComponentLink1URL: https://eu.mouser.com/datasheet/2/447/PYu_RC_Group_51_RoHS_L_11-1984063.pdf; Supplier 1: Digi-Key; Supplier Part Number 1: 311-68.0KLRTR-ND; ComponentLink1Description: Datasheet; Part Type: Thick Film; Price: 0,00065051; Value: 68k
footprint R_ANY_CHIP_0402_MED
footprint R_ANY_CHIP_0402_HI
pins: 1, 2

## RC0402FR-0768KL_1
designator R?, comment Tolerance: ±1%  Package: 0402  (hidden comment: 68k)
68 kOhms ±1% 1/16W 0402 Thick Film Resistor; Part Number: RC0402FR-0768KL; Manufacturer: Yageo; Power Rating: 0.062W; Voltage: 50V; Temperature Stability: ±100ppm/°C; Replacement: NONE; Component Status: Released; Component Type: SMD; Temperature Range: -55°C ~ 155°C; ComponentLink1URL: https://eu.mouser.com/datasheet/2/447/PYu_RC_Group_51_RoHS_L_11-1984063.pdf; Supplier 1: Digi-Key; Supplier Part Number 1: 311-68.0KLRTR-ND; ComponentLink1Description: Datasheet; Part Type: Thick Film; Price: 0,00065051; Value: 68k
footprint R_ANY_CHIP_0402_MED
footprint R_ANY_CHIP_0402_HI
pins: 1, 2

## RC0402FR-07100KL
designator R??, comment Tolerance: ±1%  Package: 0402  (hidden comment: 100k)
100 kOhms ±1% 1/16W 0402 Thick Film Resistor; Part Number: RC0402FR-07100KL; Manufacturer: Yageo; Power Rating: 0.062W; Voltage: 50V; Component Status: Released; Temperature Stability: ±100ppm/°C; Replacement: NONE; Component Type: SMD; Part Type: Thick Film; Temperature Range: -55°C ~ 155°C; ComponentLink1URL: https://eu.mouser.com/datasheet/2/447/PYu_RC_Group_51_RoHS_L_10-1664068.pdf; Supplier 1: Digi-Key; Supplier Part Number 1: 311-100KLRTR-ND; Price: 0.00065; ComponentLink1Description: Datasheet; Value: 100k
footprint R_ANY_CHIP_0402_MED
footprint R_ANY_CHIP_0402_HI
pins: 1, 2

## RC0402FR-07100RL
designator R?, comment Tolerance: ±1%  Package: 0402  (hidden comment: 100)
100 Ohms ±1% 1/16W 0402 Thick Film Resistor; Part Number: RC0402FR-07100RL; Manufacturer: Yageo; Power Rating: 0.062W; Voltage: 50V; Component Status: Released; Temperature Stability: ±100ppm/°C; Replacement: NONE; Component Type: SMD; Part Type: Thick Film; Temperature Range: -55°C ~ 155°C; ComponentLink1URL: https://eu.mouser.com/datasheet/2/447/PYu_RC_Group_51_RoHS_L_10-1664068.pdf; Supplier 1: Digi-Key; Supplier Part Number 1: 311-100LRTR-ND; Price: 0.00065; ComponentLink1Description: Datasheet; Value: 100
footprint R_ANY_CHIP_0402_MED
footprint R_ANY_CHIP_0402_HI
pins: 1, 2

## RC0402FR-07120RL
designator R?, comment Tolerance: ±1%  Package: 0402  (hidden comment: 120)
120 Ohms ±1% 1/16W 0402 Thick Film Resistor; Part Number: RC0402FR-07120RL; Manufacturer: Yageo; Power Rating: 0.062W; Voltage: 50V; Component Status: Released; Temperature Stability: ±100ppm/°C; Replacement: NONE; Component Type: SMD; Part Type: Thick Film; Temperature Range: -55°C ~ 155°C; ComponentLink1URL: https://eu.mouser.com/datasheet/2/447/PYu_RC_Group_51_RoHS_L_10-1664068.pdf; Price: 0.00065; ComponentLink1Description: Datasheet; Value: 120
footprint R_ANY_CHIP_0402_MED
footprint R_ANY_CHIP_0402_HI
pins: 1, 2

## RC0402FR-07120RL_1
designator R?, comment Tolerance: ±1%  Package: 0402  (hidden comment: 120)
120 Ohms ±1% 1/16W 0402 Thick Film Resistor; Part Number: RC0402FR-07120RL; Manufacturer: Yageo; Power Rating: 0.062W; Voltage: 50V; Component Status: Released; Temperature Stability: ±100ppm/°C; Replacement: NONE; Component Type: SMD; Part Type: Thick Film; Temperature Range: -55°C ~ 155°C; ComponentLink1URL: https://eu.mouser.com/datasheet/2/447/PYu_RC_Group_51_RoHS_L_10-1664068.pdf; Price: 0.00065; ComponentLink1Description: Datasheet; Value: 120
footprint R_ANY_CHIP_0402_MED
footprint R_ANY_CHIP_0402_HI
pins: 1, 2

## RC0402FR-07160KL
designator R?, comment Tolerance: ±1%  Package: 0402  (hidden comment: 160k)
160 kOhms ±1% 1/16W 0402 Thick Film Resistor; Part Number: RC0402FR-07160KL; Manufacturer: Yageo; Power Rating: 0.062W; Voltage: 50V; Temperature Stability: ±100ppm/°C; Replacement: NONE; Component Status: Released; Component Type: SMD; Temperature Range: -55°C ~ 155°C; ComponentLink1URL: https://eu.mouser.com/datasheet/2/447/PYu_RC_Group_51_RoHS_L_11-1984063.pdf; ComponentLink1Description: Datasheet; Part Type: Thick Film; Price: 0,0005; Value: 160k
footprint R_ANY_CHIP_0402_MED
footprint R_ANY_CHIP_0402_HI
pins: 1, 2

## RC0402FR-07160KL_1
designator R?, comment Tolerance: ±1%  Package: 0402  (hidden comment: 160k)
160 kOhms ±1% 1/16W 0402 Thick Film Resistor; Part Number: RC0402FR-07160KL; Manufacturer: Yageo; Power Rating: 0.062W; Voltage: 50V; Temperature Stability: ±100ppm/°C; Replacement: NONE; Component Status: Released; Component Type: SMD; Temperature Range: -55°C ~ 155°C; ComponentLink1URL: https://eu.mouser.com/datasheet/2/447/PYu_RC_Group_51_RoHS_L_11-1984063.pdf; ComponentLink1Description: Datasheet; Part Type: Thick Film; Price: 0,0005; Value: 160k
footprint R_ANY_CHIP_0402_MED
footprint R_ANY_CHIP_0402_HI
pins: 1, 2

## RC0402FR-07180KL
designator R?, comment Tolerance: ±1%  Package: 0402  (hidden comment: 180k)
180 kOhms ±1% 1/16W 0402 Thick Film Resistor; Part Number: RC0402FR-07180KL; Manufacturer: Yageo; Power Rating: 0.062W; Voltage: 50V; Component Status: Released; Temperature Stability: ±100ppm/°C; Replacement: NONE; Component Type: SMD; Part Type: Thick Film; Temperature Range: -55°C ~ 155°C; ComponentLink1URL: https://eu.mouser.com/datasheet/2/447/PYu_RC_Group_51_RoHS_L_11-1984063.pdf; Price: 0.00065; ComponentLink1Description: Datasheet; Value: 180k
footprint R_ANY_CHIP_0402_MED
footprint R_ANY_CHIP_0402_HI
pins: 1, 2

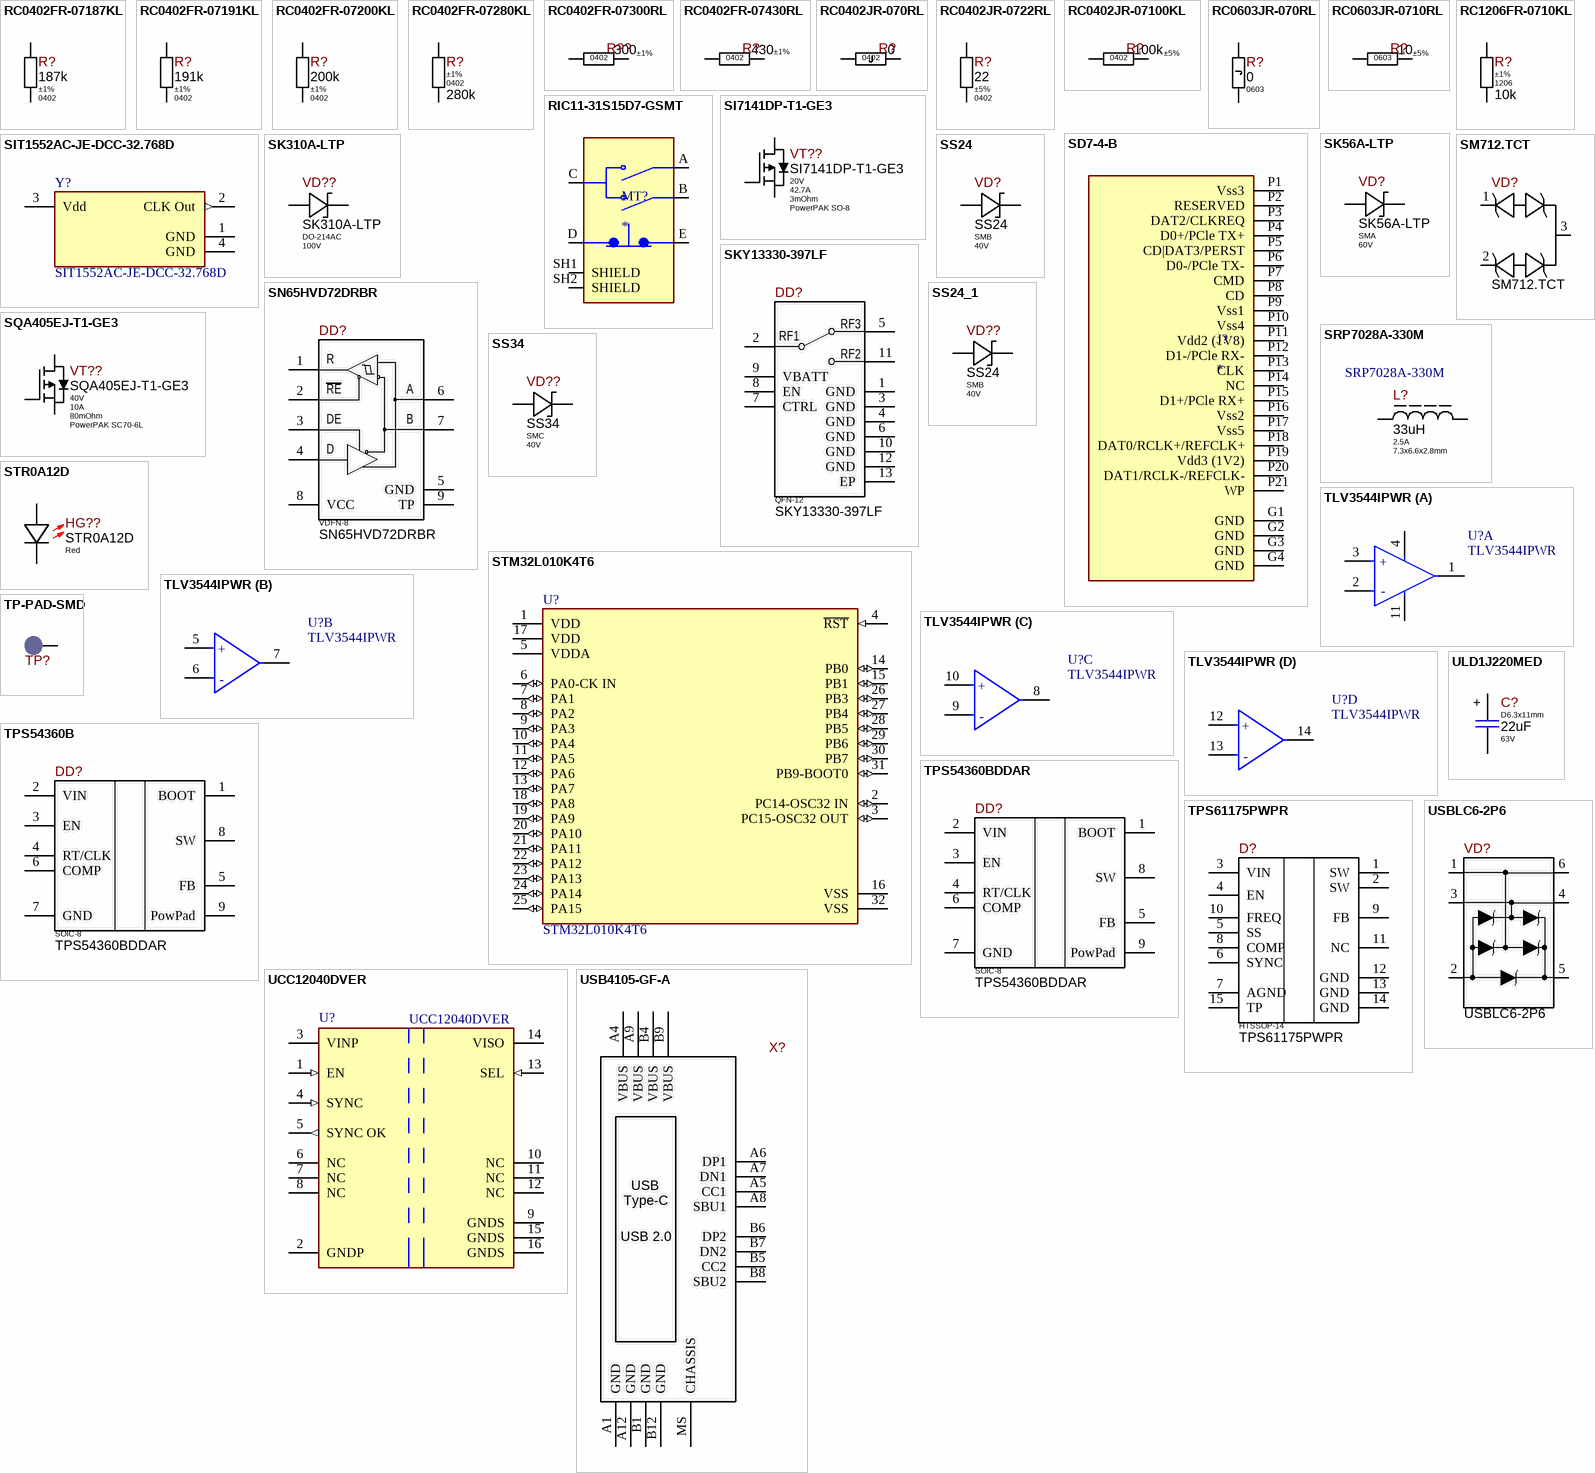
[diagram p3: symbols RC0402FR-07187KL to USBLC6-2P6]

## RC0402FR-07187KL
designator R?, comment Tolerance: ±1%  Package: 0402  (hidden comment: 187k)
187 kOhms ±1% 1/16W 0402 Thick Film Resistor; Part Number: RC0402FR-07187KL; Manufacturer: Yageo; Power Rating: 0.062W; Voltage: 50V; Component Status: Released; Temperature Stability: ±100ppm/°C; Replacement: NONE; Component Type: SMD; Part Type: Thick Film; Temperature Range: -55°C ~ 155°C; ComponentLink1URL: https://eu.mouser.com/datasheet/2/447/YAGEO_PYu_RC_Group_51_RoHS_L_12-3313492.pdf; Supplier 1: Digi-Key; Supplier Part Number 1: 311-187KLRTR-ND; Price: NONE; ComponentLink1Description: Datasheet; Value: 187k
footprint R_ANY_CHIP_0402_MED
footprint R_ANY_CHIP_0402_HI
pins: 1, 2

## RC0402FR-07191KL
designator R?, comment Tolerance: ±1%  Package: 0402  (hidden comment: 191k)
191 kOhms ±1% 1/16W 0402 Thick Film Resistor; Part Number: RC0402FR-07191KL; Manufacturer: Yageo; Power Rating: 0.062W; Voltage: 50V; Component Status: Released; Temperature Stability: ±100ppm/°C; Replacement: NONE; Component Type: SMD; Part Type: Thick Film; Temperature Range: -55°C ~ 155°C; ComponentLink1URL: https://eu.mouser.com/datasheet/2/447/YAGEO_PYu_RC_Group_51_RoHS_L_12-3313492.pdf; Supplier 1: Mouser; Supplier Part Number 1: 603-RC0402FR-07191KL; Price: NONE; ComponentLink1Description: Datasheet; Value: 191k
footprint R_ANY_CHIP_0402_MED
footprint R_ANY_CHIP_0402_HI
pins: 1, 2

## RC0402FR-07200KL
designator R?, comment Tolerance: ±1%  Package: 0402  (hidden comment: 200k)
200 kOhms ±1% 1/16W 0402 Thick Film Resistor; Part Number: RC0402FR-07200KL; Manufacturer: Yageo; Power Rating: 0.062W; Voltage: 50V; Component Status: Released; Temperature Stability: ±100ppm/°C; Replacement: NONE; Component Type: SMD; Part Type: Thick Film; Temperature Range: -55°C ~ 155°C; ComponentLink1URL: https://eu.mouser.com/datasheet/2/447/PYu_RC_Group_51_RoHS_L_10-1664068.pdf; Price: 0.00065; ComponentLink1Description: Datasheet; Value: 200k
footprint R_ANY_CHIP_0402_MED
footprint R_ANY_CHIP_0402_HI
pins: 1, 2

## RC0402FR-07280KL
designator R?, comment Tolerance: ±1%  Package: 0402  (hidden comment: 280k)
280 kOhms ±1% 1/16W 0402 Thick Film Resistor; Part Number: RC0402FR-07280KL; Manufacturer: Yageo; Power Rating: 0.062W; Voltage: 50V; Component Status: Released; Temperature Stability: ±100ppm/°C; Replacement: NONE; GUID_1C: d859b88b-0e4c-11e7-82d8-d8cb8a9acc66; Component Type: SMD; Part Type: Thick Film; Temperature Range: -55°C ~ 155°C; ComponentLink1URL: https://eu.mouser.com/datasheet/2/447/PYu_RC_Group_51_RoHS_L_10-1664068.pdf; Price: 0.00078055; ComponentLink1Description: Datasheet; Value: 280k
footprint R_ANY_CHIP_0402_MED
footprint R_ANY_CHIP_0402_HI
pins: 1, 2

## RC0402FR-07300RL
designator R??, comment Tolerance: ±1%  Package: 0402  (hidden comment: 300)
300 Ohms ±1% 1/16W 0402 Thick Film Resistor; Part Number: RC0402FR-07300RL; Manufacturer: Yageo; Power Rating: 0.062W; Voltage: 50V; Component Status: Released; Temperature Stability: ±100ppm/°C; Replacement: NONE; Component Type: SMD; Part Type: Thick Film; Temperature Range: -55°C ~ 155°C; ComponentLink1URL: https://eu.mouser.com/datasheet/2/447/PYu_RC_Group_51_RoHS_L_10-1664068.pdf; Price: 0.00065; ComponentLink1Description: Datasheet; Value: 300
footprint R_ANY_CHIP_0402_MED
footprint R_ANY_CHIP_0402_HI
pins: 1, 2

## RC0402FR-07430RL
designator R?, comment Tolerance: ±1%  Package: 0402  (hidden comment: 430)
430 Ohms ±1% 1/16W 0402 Thick Film Resistor; Part Number: RC0402FR-07430RL; Manufacturer: Yageo; Power Rating: 0.062W; Voltage: 50V; Component Status: Released; Temperature Stability: ±100ppm/°C; Replacement: NONE; Component Type: SMD; Part Type: Thick Film; Temperature Range: -55°C ~ 155°C; ComponentLink1URL: https://eu.mouser.com/datasheet/2/447/PYu_RC_Group_51_RoHS_L_11-1984063.pdf; Supplier 1: Digi-Key; Supplier Part Number 1: 311-430LRTR-ND; Price: 0.00065; ComponentLink1Description: Datasheet; Value: 430
footprint R_ANY_CHIP_0402_MED
footprint R_ANY_CHIP_0402_HI
pins: 1, 2

## RC0402JR-070RL
designator R?, comment Package: 0402  (hidden comment: 0)
0 Ohms Jumper ±5% 1/16W 0402 Thick Film Resistor; Part Number: RC0402JR-070RL; Manufacturer: Yageo; Power Rating: 0.062W; Voltage: 50V; Component Status: Released; Temperature Stability: NONE; Tolerance: ±5%; Component Type: SMD; Part Type: Thick Film; Temperature Range: -55°C ~ 155°C; ComponentLink1URL: https://eu.mouser.com/datasheet/2/447/PYu_RC_Group_51_RoHS_L_10-1664068.pdf; Supplier 1: Digi-Key; Supplier Part Number 1: 311-0.0JRTR-ND; Replacement: NONE; Price: 0.00045; ComponentLink1Description: Datasheet; Value: 0
footprint R_ANY_CHIP_0402_MED
footprint R_ANY_CHIP_0402_HI
footprint RLC_0402_MED_UNI
pins: 1, 2

## RC0402JR-0722RL
designator R?, comment Tolerance: ±5%  Package: 0402  (hidden comment: 22)
22 Ohms ±5% 1/16W 0402 Thick Film Resistor; Part Number: RC0402JR-0722RL; Manufacturer: Yageo; Power Rating: 0.062W; Voltage: 50V; Temperature Stability: ±100ppm/°C; Replacement: NONE; Component Status: Released; Component Type: SMD; Temperature Range: -55°C ~ 155°C; ComponentLink1URL: https://eu.mouser.com/datasheet/2/447/PYu_RC_Group_51_RoHS_L_10-1664068.pdf; ComponentLink1Description: Datasheet; Price: 0,00045; Part Type: Thick Film; Value: 22
footprint R_ANY_CHIP_0402_MED
footprint R_ANY_CHIP_0402_HI
pins: 1, 2

## RC0402JR-07100KL
designator R?, comment Tolerance: ±5%  Package: 0402  (hidden comment: 100k)  (no BOM)
100 kOhms ±5% 1/16W 0402 Thick Film Resistor; Part Number: RC0402JR-07100KL; Manufacturer: Yageo; Power Rating: 0.062W; Voltage: 50V; Component Status: Released; Temperature Stability: ±100ppm/°C; Replacement: NONE; Component Type: SMD; Part Type: Thick Film; Temperature Range: -55°C ~ 155°C; ComponentLink1URL: https://eu.mouser.com/datasheet/2/447/PYu_RC_Group_51_RoHS_L_10-1664068.pdf; Supplier 1: Digi-Key; Supplier Part Number 1: 311-100KJRTR-ND; Price: 0.00054; ComponentLink1Description: Datasheet; Value: 100k
footprint R_ANY_CHIP_0402_MED
footprint R_ANY_CHIP_0402_HI
pins: 1, 2

## RC0603JR-070RL
designator R?, comment Package: 0603  (hidden comment: 0)
0 Ohms Jumper, 1/10W 0603 Thick Film Resistor; Part Number: RC0603JR-070RL; Manufacturer: Yageo; Component Status: Released; Power Rating: 0.1W; Tolerance: ±5%; Voltage: 75V; Temperature Stability: NONE; Component Type: SMD; Temperature Range: -55°C ~ 155°C; ComponentLink1URL: https://eu.mouser.com/datasheet/2/447/PYu_RC_Group_51_RoHS_L_10-1664068.pdf; Supplier 1: Digi-Key; Supplier Part Number 1: 311-0.0GRTR-ND; Replacement: NONE; Price: 0.0006; ComponentLink1Description: Datasheet; Part Type: Thick Film; Value: 0
footprint R_ANY_CHIP_0603_MED
footprint R_ANY_CHIP_0603_HI
pins: 1, 2

## RC0603JR-0710RL
designator R?, comment Tolerance: ±5%  Package: 0603  (hidden comment: 10)
10 Ohms ±5%, 1/10W 0603 Thick Film Resistor; Part Number: RC0603JR-0710RL; Manufacturer: Yageo; Power Rating: 0.1W; Voltage: 75V; Component Status: Released; Temperature Stability: ±200ppm/°C; Replacement: NONE; Component Type: SMD; Part Type: Thick Film; Temperature Range: -55°C ~ 155°C; ComponentLink1URL: https://eu.mouser.com/datasheet/2/447/Yageo_03_18_2021_PYu_RC_Group_51_RoHS_L_11-2199992.pdf; Supplier 1: Mouser; Supplier Part Number 1: 603-RC0603JR-0710RL; Price: 0.0006; ComponentLink1Description: Datasheet; Value: 10
footprint R_ANY_CHIP_0603_MED
footprint R_ANY_CHIP_0603_HI
pins: 1, 2

## RC1206FR-0710KL
designator R?, comment Tolerance: ±1%  Package: 1206  (hidden comment: 10k)
10 kOhms ±1%, 1/4W 1206 Thick Film Resistor; Part Number: RC1206FR-0710KL; Manufacturer: Yageo; Power Rating: 0.25W; Voltage: 200V; Component Status: Released; Temperature Stability: ±100ppm/°C; Replacement: NONE; Component Type: SMD; Part Type: Thick Film; Temperature Range: -55°C ~ 155°C; ComponentLink1URL: https://eu.mouser.com/datasheet/2/447/PYu_RC_Group_51_RoHS_L_11-1984063.pdf; Supplier 1: Digi-Key; Supplier Part Number 1: 311-10.0KFRTR-ND; Price: 0.0021; ComponentLink1Description: Datasheet; Value: 10k
footprint R_ANY_CHIP_1206_MED
footprint R_ANY_CHIP_1206_HI
pins: 1, 2

## RIC11-31S15D7-GSMT
designator MT?
Encoders MECH, 15 PPR 30 DET, 5 Vdc, SW, 7 mm smth bush, D shaft, horizontal, GSMT; MP: RIC11-31S15D7-GSMT; Resolution: 15 PPR; Number of Detents: 30 Detent; Number of Channels: 1 Channel; Output Type: Quadrature; Shaft Diameter: 6 mm; With Switch: Push; Operating Supply Voltage: 5 V; Life: 100000 Cycle; Brand: Same Sky; Package: None; Price: None; Value: *; Availability: Unavailable; Part Number: RIC11-31S15D7-GSMT; Supplier 1: Mouser; Supplier Part Number 1: 179-RIC1131S15D7GSMT; Mounting Style: SMD/SMT; Product: Mechanical Panel Mount Encoders; Type: Incremental; Technology: Mechanical; Orientation: Vertical
footprint XDCR_RIC11-31S15D7-GSMT
pins: A, B, C, D S1, E S2, SH1 SHIELD, SH2 SHIELD

## SD7-4-B
designator J?
21 (18 + 3) Position Card Connector Secure Digital - SD Surface Mount, Right Angle Gold; MF: Same Sky (Formerly CUI Devices); MP: SD7-4-B; Number of Contacts: 21 Contact; Current Rating: 500 mA; Insertion - Extraction Style: Push-Pull; Insulation Resistance: 1 GOhms; Voltage Rating: 30 V; ComponentLink1Description: Datasheet; ComponentLink1URL: https://eu.mouser.com/datasheet/2/1628/sd7_4_b-3623532.pdf; Product: Card Connectors; Card Type: SD; Mounting Style: SMD/SMT; Height: 2.28 mm; Subcategory: Memory Connectors & Sockets; Part Number: SD7-4-B; Supplier 1: Mouser; Supplier Part Number 1: 179-SD7-4-B
footprint SAMESKY_SD7-4-B
pins: G1 GND (power), G2 GND (power), G3 GND (power), G4 GND (power), P1 Vss3, P2 RESERVED, P3 DAT2/CLKREQ, P4 D0+/PCle TX+, P5 CD|DAT3/PERST, P6 D0-/PCle TX-, P7 CMD, P8 CD, P9 Vss1, P10 Vss4, P11 Vdd2 (1V8), P12 D1-/PCle RX-, P13 CLK, P14 NC, P15 D1+/PCle RX+, P16 Vss2, P17 Vss5, P18 DAT0/RCLK+/REFCLK+, P19 Vdd3 (1V2), P20 DAT1/RCLK-/REFCLK-, P21 WP

## SI7141DP-T1-GE3
designator VT??, comment Part Number: SI7141DP-T1-GE3  Vds: 20V  Id: 42.7A  Rds: 3mOhm  Package: PowerPAK SO-8  (hidden comment: SI7141DP)
-20V, -60A max P-Channel TrenchFET power MOSFET, 3mOhm @ Vgs = -4.5V; Manufacturer: Vishay Siliconix; Component Status: Released; Standard Lead Time: 14 Weeks; Replacement: NONE; Part Type: P-Channel; Component Type: SMD; Temperature Range: -55°C ~ 150°C; ComponentLink1URL: https://www.vishay.com/docs/65596/si7141dp.pdf; Supplier 1: Digi-Key; Supplier Part Number 1: SI7141DP-T1-GE3TR-ND; Price: 1.48; ComponentLink1Description: Datasheet
footprint PowerPAK-SO-8
pins: D Drain, G Gate, S Source

## SIT1552AC-JE-DCC-32.768D
designator Y?
MEMS OSC TCXO 32.7680KHZ LVCMOS; Frequency Stability: 5ppm; Frequency: 32.768kHz; Min Operating Temperature: 0°C; Length: 0.061inch; Mount: Surface Mount; Max Operating Temperature: 70°C; Width: 0.033inch; RoHS Compliant: Yes; Series: SiT1552; Packaging: Cut Tape; Height: 0.024inch; ComponentLink1Description: Datasheet; ComponentLink1URL: https://eu.mouser.com/datasheet/2/371/SiT1552_datasheet-1511133.pdf; Part Number: SIT1552AC-JE-DCC-32.768D; Supplier 1: Mouser; Supplier Part Number 1: 788-1552ACJEDCC32.7D
footprint FP-SiT1552-J-MFG
pins: 1 GND (power), 2 CLK Out (out), 3 Vdd (power), 4 GND (power)

## SK56A-LTP
designator VD?  Package: SMA  Voltage: 60V  (hidden comment: SK56A-LTP)
Diode Schottky 60V 5A, SMA; Manufacturer: Micro Commercial Components; Marking: SK56A; Standard Lead Time: 12 Weeks; Vf: 750mV @ 5A; Replacement: NONE; Component Status: Released; Part Type: Schottky; Component Type: SMD; Current: 5A; Temperature Range: -55°C ~ 150°C; ComponentLink1URL: \\altiumdb.ajax.local\files\Datasheet\Diodes\SK52A-L-SK510A-L(DO-214AC).pdf; Supplier 1: Digi-Key; Supplier Part Number 1: SK56A-LTPMSTR-ND; ComponentLink1Description: Datasheet; Price: 0.06; Part Number: SK56A-LTP
footprint SMA_MED
footprint SMA_HI
pins: AN, CA

## SK310A-LTP
designator VD??  Package: DO-214AC  Voltage: 100V  (hidden comment: SK310A-LTP)
Diode Schottky 100V 3A, 0.5mA Reverse Current, 0.85V @ 3A, HSMA; Manufacturer: Micro Commercial Components; Component Status: Released; Marking: SK310A; Standard Lead Time: 17 Weeks; Replacement: NONE; Part Type: Schottky; Component Type: SMD; Current: 3A; Vf: 0.85V @ 3A; Temperature Range: -50°C ~ 125°C; ComponentLink1URL: https://eu.mouser.com/datasheet/2/258/SK32A-SK310A(HSMA)-1626698.pdf; Supplier 1: Mouser; Supplier Part Number 1: 833-SK310A-LTP; Price: 0.0917; ComponentLink1Description: Datasheet; Part Number: SK310A-LTP
footprint SMA-H_MED
pins: AN, CA

## SKY13330-397LF
designator DD?  Package: QFN-12  (hidden comment: SKY13330-397LF)
0.1GHz to 6.0GHz SPDT RF Switch, 0.35 dB @ 2.2 GHz Loss, 50Ohm, QFN-12 (2x2mm); Manufacturer: Skyworks Solutions; Standard Lead Time: 15 Weeks; Component Status: Released; Replacement: NONE; ComponentLink1URL: https://eu.mouser.com/datasheet/2/472/SKY13330_397LF_201407E-3365288.pdf; ComponentLink1Description: Datasheet; Part Type: RF / Switch; Component Type: SMD; Temperature Range: -40°C ~ 85°C; Supplier 1: Mouser; Supplier Part Number 1: 873-SKY13330-397LF; Price: 0.4; Part Number: SKY13330-397LF
footprint QFN12
footprint QFN-12_SKY13330-397LF
footprint QFN-12_SKY13373-460LF
pins: 1 GND, 2, 3 GND, 4 GND, 5, 6 GND, 7 CTRL, 8 EN, 9 VBATT, 10 GND, 11, 12 GND, 13 EP
text: RF3; RF1; RF2

## SM712.TCT
designator VD?
TVS Diode 26V and 19V Clamp, 21A and 38A (8/20us) Ipp, SOT-23; Manufacturer: Semtech; Marking: 712; Component Status: Released; Standard Lead Time: 2 Weeks; Current: 21A, 38A; Voltage: 13.3V, 7.5V; Replacement: NONE; Part Type: TVS / ESD Protection; Component Type: SMD; Package: SOT-23; Temperature Range: -55°C ~ 125°C; ComponentLink1URL: https://semtech.my.salesforce.com/sfc/p/#E0000000JelG/a/440000001MKW/f6pBKheIN2CeR0DxWdS3THuJ7nh4aKYltSzghsLP5iw; Supplier 1: Digi-Key; Supplier Part Number 1: SM712TR-ND; Price: 0,25; ComponentLink1Description: Datasheet; Part Number: SM712.TCT
footprint SOT-23_MED
footprint SOT-23_HI
pins: 1, 2, 3